# Altium schematic symbol library SCH - POWER - SWITCHMODE - TI TPS82697SIP.SchLib: 1 symbol
Pins are listed as number, name and electrical type; pins without a type are passive.

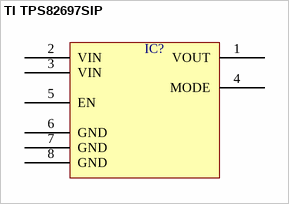
[diagram p0: symbol TI TPS82697SIP]

## TI TPS82697SIP
designator IC?  (value not drawn)
pins: 1 VOUT, 2 VIN, 3 VIN, 4 MODE, 5 EN, 6 GND, 7 GND, 8 GND